# Altium schematic symbol library warpcore.SchLib: 2 symbols
Pins are listed as number, name and electrical type; pins without a type are passive.

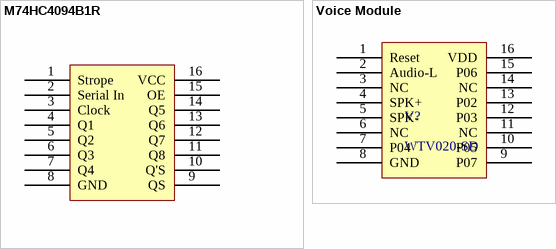
[diagram p0: symbols M74HC4094B1R to Voice Module]

## M74HC4094B1R
designator Q?
pins: 1 Strope, 2 Serial In, 3 Clock, 4 Q1, 5 Q2, 6 Q3, 7 Q4, 8 GND, 9 QS, 10 Q'S, 11 Q8, 12 Q7, 13 Q6, 14 Q5, 15 OE, 16 VCC

## Voice Module
designator V?, comment WTV020-SD
Voice Module
pins: 1 Reset, 2 Audio-L, 3 NC, 4 SPK+, 5 SPK-, 6 NC, 7 P04, 8 GND, 9 P07, 10 P05, 11 NC, 12 P03, 13 P02, 14 NC, 15 P06, 16 VDD